# Altium integrated library CDE_Library.IntLib: 6171 symbols (part 7 of 25)
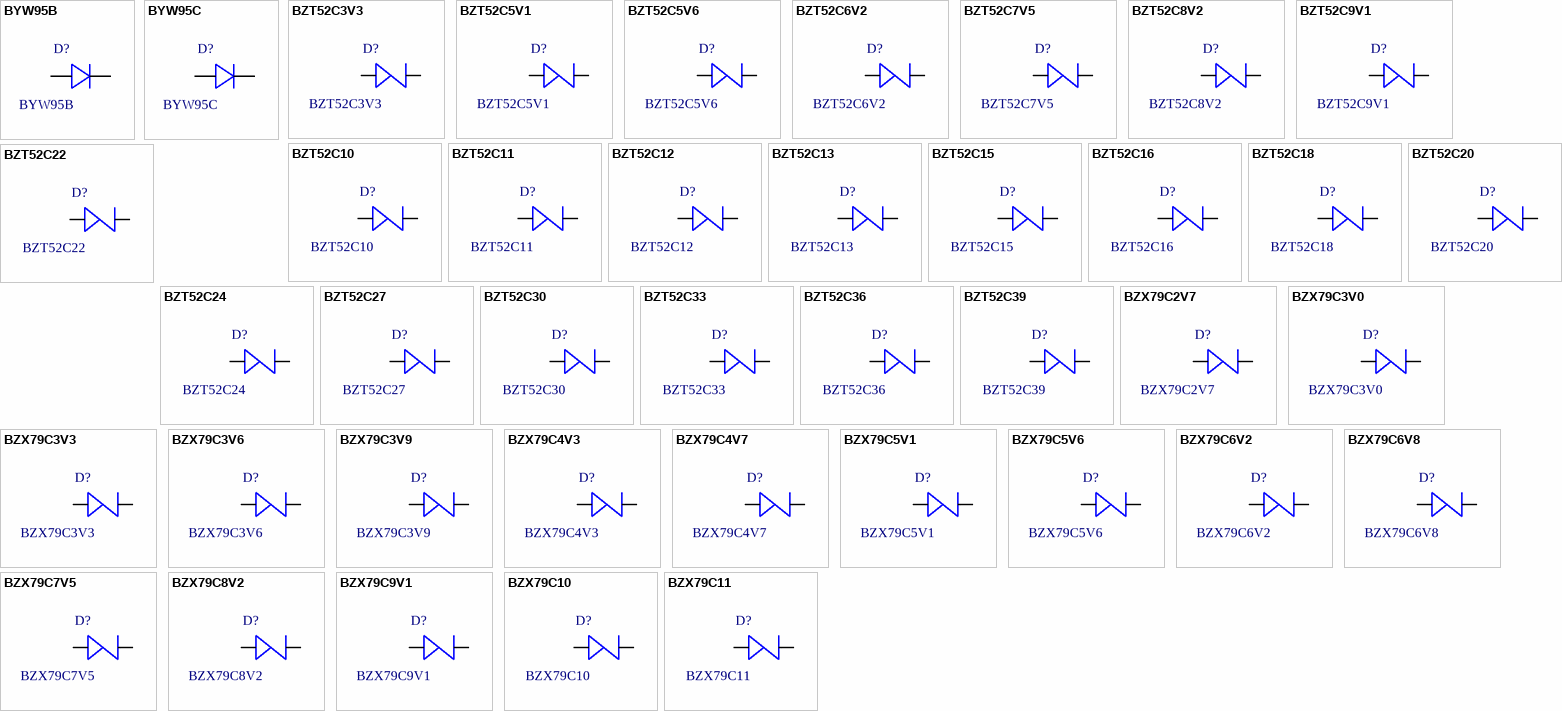
[diagram p263: symbols BYW95B to BZX79C11]

## BZT52C22
designator D?
zenerdiode smd 400mW; Part Number: BZT52C22; Component Kind: Standard; Component Type: Standard; Designator: BZT52C22; Footprint: smd SOD-123; Library Reference: BZT52C22; Pin Count: 2
footprint smd SOD-123
pins: 1, 2

## BZT52C24
designator D?
zenerdiode smd 400mW; Part Number: BZT52C24; Component Kind: Standard; Component Type: Standard; Designator: BZT52C24; Footprint: smd SOD-123; Library Reference: BZT52C24; Pin Count: 2
footprint smd SOD-123
pins: 1, 2

## BZT52C27
designator D?
zenerdiode smd 400mW; Part Number: BZT52C27; Component Kind: Standard; Component Type: Standard; Designator: BZT52C27; Footprint: smd SOD-123; Library Reference: BZT52C27; Pin Count: 2
footprint smd SOD-123
pins: 1, 2

## BZT52C30
designator D?
zenerdiode smd 400mW; Part Number: BZT52C30; Component Kind: Standard; Component Type: Standard; Designator: BZT52C30; Footprint: smd SOD-123; Library Reference: BZT52C30; Pin Count: 2
footprint smd SOD-123
pins: 1, 2

## BZT52C33
designator D?
zenerdiode smd 400mW; Part Number: BZT52C33; Component Kind: Standard; Component Type: Standard; Designator: BZT52C33; Footprint: smd SOD-123; Library Reference: BZT52C33; Pin Count: 2
footprint smd SOD-123
pins: 1, 2

## BZT52C36
designator D?
zenerdiode smd 400mW; Part Number: BZT52C36; Component Kind: Standard; Component Type: Standard; Designator: BZT52C36; Footprint: smd SOD-123; Library Reference: BZT52C36; Pin Count: 2
footprint smd SOD-123
pins: 1, 2

## BZT52C39
designator D?
zenerdiode smd 400mW; Part Number: BZT52C39; Component Kind: Standard; Component Type: Standard; Designator: BZT52C39; Footprint: smd SOD-123; Library Reference: BZT52C39; Pin Count: 2
footprint smd SOD-123
pins: 1, 2

## BZX79C2V7
designator D?
zenerdiode 400mW/2V7; Part Number: BZX79C2V7; Component Kind: Standard; Component Type: Standard; Designator: BZX79C2V7; Footprint: DO-35; Library Reference: BZX79C2V7; Pin Count: 2
footprint DO-35
pins: 1, 2

## BZX79C3V0
designator D?
zenerdiode 400mW/3V0; Part Number: BZX79C3V0; Component Kind: Standard; Component Type: Standard; Designator: BZX79C3V0; Footprint: DO-35; Library Reference: BZX79C3V0; Pin Count: 2
footprint DO-35
pins: 1, 2

## BZX79C3V3
designator D?
zenerdiode 400mW/3V3; Part Number: BZX79C3V3; Component Kind: Standard; Component Type: Standard; Designator: BZX79C3V3; Footprint: DO-35; Library Reference: BZX79C3V3; Pin Count: 2
footprint DO-35
pins: 1, 2

## BZX79C3V6
designator D?
zenerdiode 400mW/3V6; Part Number: BZX79C3V6; Component Kind: Standard; Component Type: Standard; Designator: BZX79C3V6; Footprint: DO-35; Library Reference: BZX79C3V6; Pin Count: 2
footprint DO-35
pins: 1, 2

## BZX79C3V9
designator D?
zenerdiode 400mW/3V9; Part Number: BZX79C3V9; Component Kind: Standard; Component Type: Standard; Designator: BZX79C3V9; Footprint: DO-35; Library Reference: BZX79C3V9; Pin Count: 2
footprint DO-35
pins: 1, 2

## BZX79C4V3
designator D?
zenerdiode 400mW/4V3; Part Number: BZX79C4V3; Component Kind: Standard; Component Type: Standard; Designator: BZX79C4V3; Footprint: DO-35; Library Reference: BZX79C4V3; Pin Count: 2
footprint DO-35
pins: 1, 2

## BZX79C4V7
designator D?
zenerdiode 400mW/4V7; Part Number: BZX79C4V7; Component Kind: Standard; Component Type: Standard; Designator: BZX79C4V7; Footprint: DO-35; Library Reference: BZX79C4V7; Pin Count: 2
footprint DO-35
pins: 1, 2

## BZX79C5V1
designator D?
zenerdiode 400mW/5V1; Part Number: BZX79C5V1; Component Kind: Standard; Component Type: Standard; Designator: BZX79C5V1; Footprint: DO-35; Library Reference: BZX79C5V1; Pin Count: 2
footprint DO-35
pins: 1, 2

## BZX79C5V6
designator D?
zenerdiode 400mW/5V6; Part Number: BZX79C5V6; Component Kind: Standard; Component Type: Standard; Designator: BZX79C5V6; Footprint: DO-35; Library Reference: BZX79C5V6; Pin Count: 2
footprint DO-35
pins: 1, 2

## BZX79C6V2
designator D?
zenerdiode 400mW/6V2; Part Number: BZX79C6V2; Component Kind: Standard; Component Type: Standard; Designator: BZX79C6V2; Footprint: DO-35; Library Reference: BZX79C6V2; Pin Count: 2
footprint DO-35
pins: 1, 2

## BZX79C6V8
designator D?
zenerdiode 400mW/6V8; Part Number: BZX79C6V8; Component Kind: Standard; Component Type: Standard; Designator: BZX79C6V8; Footprint: DO-35; Library Reference: BZX79C6V8; Pin Count: 2
footprint DO-35
pins: 1, 2

## BZX79C7V5
designator D?
zenerdiode 400mW/7V5; Part Number: BZX79C7V5; Component Kind: Standard; Component Type: Standard; Designator: BZX79C7V5; Footprint: DO-35; Library Reference: BZX79C7V5; Pin Count: 2
footprint DO-35
pins: 1, 2

## BZX79C8V2
designator D?
zenerdiode 400mW/8V2; Part Number: BZX79C8V2; Component Kind: Standard; Component Type: Standard; Designator: BZX79C8V2; Footprint: DO-35; Library Reference: BZX79C8V2; Pin Count: 2
footprint DO-35
pins: 1, 2

## BZX79C9V1
designator D?
zenerdiode 400mW/9V1; Part Number: BZX79C9V1; Component Kind: Standard; Component Type: Standard; Designator: BZX79C9V1; Footprint: DO-35; Library Reference: BZX79C9V1; Pin Count: 2
footprint DO-35
pins: 1, 2

## BZX79C10
designator D?
zenerdiode 400mW/10V; Part Number: BZX79C10; Component Kind: Standard; Component Type: Standard; Designator: BZX79C10; Footprint: DO-35; Library Reference: BZX79C10; Pin Count: 2
footprint DO-35
pins: 1, 2

## BZX79C11
designator D?
zenerdiode 400mW/11V; Part Number: BZX79C11; Component Kind: Standard; Component Type: Standard; Designator: BZX79C11; Footprint: DO-35; Library Reference: BZX79C11; Pin Count: 2
footprint DO-35
pins: 1, 2

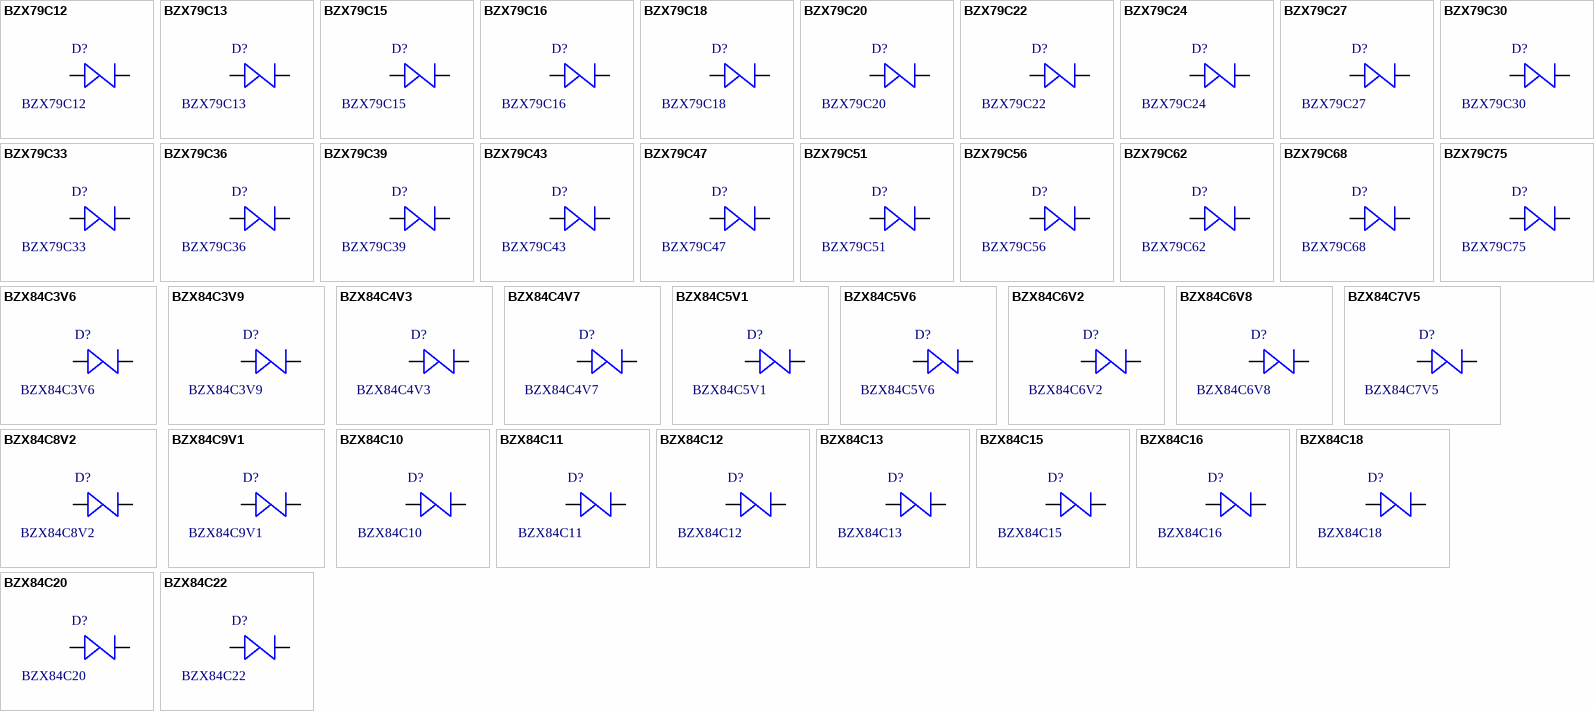
[diagram p101: symbols BZX79C12 to BZX84C22]

## BZX79C12
designator D?
zenerdiode 400mW/12V; Part Number: BZX79C12; Component Kind: Standard; Component Type: Standard; Designator: BZX79C12; Footprint: DO-35; Library Reference: BZX79C12; Pin Count: 2
footprint DO-35
pins: 1, 2

## BZX79C13
designator D?
zenerdiode 400mW/13V; Part Number: BZX79C13; Component Kind: Standard; Component Type: Standard; Designator: BZX79C13; Footprint: DO-35; Library Reference: BZX79C13; Pin Count: 2
footprint DO-35
pins: 1, 2

## BZX79C15
designator D?
zenerdiode 400mW/15V; Part Number: BZX79C15; Component Kind: Standard; Component Type: Standard; Designator: BZX79C15; Footprint: DO-35; Library Reference: BZX79C15; Pin Count: 2
footprint DO-35
pins: 1, 2

## BZX79C16
designator D?
zenerdiode 400mW/16V; Part Number: BZX79C16; Component Kind: Standard; Component Type: Standard; Designator: BZX79C16; Footprint: DO-35; Library Reference: BZX79C16; Pin Count: 2
footprint DO-35
pins: 1, 2

## BZX79C18
designator D?
zenerdiode 400mW/18V; Part Number: BZX79C18; Component Kind: Standard; Component Type: Standard; Designator: BZX79C18; Footprint: DO-35; Library Reference: BZX79C18; Pin Count: 2
footprint DO-35
pins: 1, 2

## BZX79C20
designator D?
zenerdiode 400mW/20V; Part Number: BZX79C20; Component Kind: Standard; Component Type: Standard; Designator: BZX79C20; Footprint: DO-35; Library Reference: BZX79C20; Pin Count: 2
footprint DO-35
pins: 1, 2

## BZX79C22
designator D?
zenerdiode 400mW/22V; Part Number: BZX79C22; Component Kind: Standard; Component Type: Standard; Designator: BZX79C22; Footprint: DO-35; Library Reference: BZX79C22; Pin Count: 2
footprint DO-35
pins: 1, 2

## BZX79C24
designator D?
zenerdiode 400mW/24V; Part Number: BZX79C24; Component Kind: Standard; Component Type: Standard; Designator: BZX79C24; Footprint: DO-35; Library Reference: BZX79C24; Pin Count: 2
footprint DO-35
pins: 1, 2

## BZX79C27
designator D?
zenerdiode 400mW/27V; Part Number: BZX79C27; Component Kind: Standard; Component Type: Standard; Designator: BZX79C27; Footprint: DO-35; Library Reference: BZX79C27; Pin Count: 2
footprint DO-35
pins: 1, 2

## BZX79C30
designator D?
zenerdiode 400mW/30V; Part Number: BZX79C30; Component Kind: Standard; Component Type: Standard; Designator: BZX79C30; Footprint: DO-35; Library Reference: BZX79C30; Pin Count: 2
footprint DO-35
pins: 1, 2

## BZX79C33
designator D?
zenerdiode 400mW/33V; Part Number: BZX79C33; Component Kind: Standard; Component Type: Standard; Designator: BZX79C33; Footprint: DO-35; Library Reference: BZX79C33; Pin Count: 2
footprint DO-35
pins: 1, 2

## BZX79C36
designator D?
zenerdiode 400mW/36V; Part Number: BZX79C36; Component Kind: Standard; Component Type: Standard; Designator: BZX79C36; Footprint: DO-35; Library Reference: BZX79C36; Pin Count: 2
footprint DO-35
pins: 1, 2

## BZX79C39
designator D?
zenerdiode 400mW/39V; Part Number: BZX79C39; Component Kind: Standard; Component Type: Standard; Designator: BZX79C39; Footprint: DO-35; Library Reference: BZX79C39; Pin Count: 2
footprint DO-35
pins: 1, 2

## BZX79C43
designator D?
zenerdiode 400mW/43V; Part Number: BZX79C43; Component Kind: Standard; Component Type: Standard; Designator: BZX79C43; Footprint: DO-35; Library Reference: BZX79C43; Pin Count: 2
footprint DO-35
pins: 1, 2

## BZX79C47
designator D?
zenerdiode 400mW/47V; Part Number: BZX79C47; Component Kind: Standard; Component Type: Standard; Designator: BZX79C47; Footprint: DO-35; Library Reference: BZX79C47; Pin Count: 2
footprint DO-35
pins: 1, 2

## BZX79C51
designator D?
zenerdiode 400mW/51V; Part Number: BZX79C51; Component Kind: Standard; Component Type: Standard; Designator: BZX79C51; Footprint: DO-35; Library Reference: BZX79C51; Pin Count: 2
footprint DO-35
pins: 1, 2

## BZX79C56
designator D?
zenerdiode 400mW/56V; Part Number: BZX79C56; Component Kind: Standard; Component Type: Standard; Designator: BZX79C56; Footprint: DO-35; Library Reference: BZX79C56; Pin Count: 2
footprint DO-35
pins: 1, 2

## BZX79C62
designator D?
zenerdiode 400mW/62V; Part Number: BZX79C62; Component Kind: Standard; Component Type: Standard; Designator: BZX79C62; Footprint: DO-35; Library Reference: BZX79C62; Pin Count: 2
footprint DO-35
pins: 1, 2

## BZX79C68
designator D?
zenerdiode 400mW/68V; Part Number: BZX79C68; Component Kind: Standard; Component Type: Standard; Designator: BZX79C68; Footprint: DO-35; Library Reference: BZX79C68; Pin Count: 2
footprint DO-35
pins: 1, 2

## BZX79C75
designator D?
zenerdiode 400mW/75V; Part Number: BZX79C75; Component Kind: Standard; Component Type: Standard; Designator: BZX79C75; Footprint: DO-35; Library Reference: BZX79C75; Pin Count: 2
footprint DO-35
pins: 1, 2

## BZX84C3V6
designator D?
zenerdiode 350mW/3V6, SOT-23; Part Number: BZX84C3V6; Component Kind: Standard; Component Type: Standard; Designator: BZX84C3V6; Footprint: smd SOT-23; Library Reference: BZX84C3V6; Pin Count: 2
footprint smd SOT-23
pins: 1, 3

## BZX84C3V9
designator D?
zenerdiode 350mW/3V9, SOT-23; Part Number: BZX84C3V9; Component Kind: Standard; Component Type: Standard; Designator: BZX84C3V9; Footprint: smd SOT-23; Library Reference: BZX84C3V9; Pin Count: 2
footprint smd SOT-23
pins: 1, 3

## BZX84C4V3
designator D?
zenerdiode 350mW/4V3, SOT-23; Part Number: BZX84C4V3; Component Kind: Standard; Component Type: Standard; Designator: BZX84C4V3; Footprint: smd SOT-23; Library Reference: BZX84C4V3; Pin Count: 2
footprint smd SOT-23
pins: 1, 3

## BZX84C4V7
designator D?
zenerdiode 350mW/4V7, SOT-23; Part Number: BZX84C4V7; Component Kind: Standard; Component Type: Standard; Designator: BZX84C4V7; Footprint: smd SOT-23; Library Reference: BZX84C4V7; Pin Count: 2
footprint smd SOT-23
pins: 1, 3

## BZX84C5V1
designator D?
zenerdiode 350mW/5V1, SOT-23; Part Number: BZX84C5V1; Component Kind: Standard; Component Type: Standard; Designator: BZX84C5V1; Footprint: smd SOT-23; Library Reference: BZX84C5V1; Pin Count: 2
footprint smd SOT-23
pins: 1, 3

## BZX84C5V6
designator D?
zenerdiode 350mW/5V6, SOT-23; Part Number: BZX84C5V6; Component Kind: Standard; Component Type: Standard; Designator: BZX84C5V6; Footprint: smd SOT-23; Library Reference: BZX84C5V6; Pin Count: 2
footprint smd SOT-23
pins: 1, 3

## BZX84C6V2
designator D?
zenerdiode 350mW/6V2, SOT-23; Part Number: BZX84C6V2; Component Kind: Standard; Component Type: Standard; Designator: BZX84C6V2; Footprint: smd SOT-23; Library Reference: BZX84C6V2; Pin Count: 2
footprint smd SOT-23
pins: 1, 3

## BZX84C6V8
designator D?
zenerdiode 350mW/6V8, SOT-23; Part Number: BZX84C6V8; Component Kind: Standard; Component Type: Standard; Designator: BZX84C6V8; Footprint: smd SOT-23; Library Reference: BZX84C6V8; Pin Count: 2
footprint smd SOT-23
pins: 1, 3

## BZX84C7V5
designator D?
zenerdiode 350mW/7V5, SOT-23; Part Number: BZX84C7V5; Component Kind: Standard; Component Type: Standard; Designator: BZX84C7V5; Footprint: smd SOT-23; Library Reference: BZX84C7V5; Pin Count: 2
footprint smd SOT-23
pins: 1, 3

## BZX84C8V2
designator D?
zenerdiode 350mW/8V2, SOT-23; Part Number: BZX84C8V2; Component Kind: Standard; Component Type: Standard; Designator: BZX84C8V2; Footprint: smd SOT-23; Library Reference: BZX84C8V2; Pin Count: 2
footprint smd SOT-23
pins: 1, 3

## BZX84C9V1
designator D?
zenerdiode 350mW/9V1, SOT-23; Part Number: BZX84C9V1; Component Kind: Standard; Component Type: Standard; Designator: BZX84C9V1; Footprint: smd SOT-23; Library Reference: BZX84C9V1; Pin Count: 2
footprint smd SOT-23
pins: 1, 3

## BZX84C10
designator D?
zenerdiode 350mW/10V, SOT-23; Part Number: BZX84C10; Component Kind: Standard; Component Type: Standard; Designator: BZX84C10; Footprint: smd SOT-23; Library Reference: BZX84C10; Pin Count: 2
footprint smd SOT-23
pins: 1, 3

## BZX84C11
designator D?
zenerdiode 350mW/11V, SOT-23; Part Number: BZX84C11; Component Kind: Standard; Component Type: Standard; Designator: BZX84C11; Footprint: smd SOT-23; Library Reference: BZX84C11; Pin Count: 2
footprint smd SOT-23
pins: 1, 3

## BZX84C12
designator D?
zenerdiode 350mW/12V, SOT-23; Part Number: BZX84C12; Component Kind: Standard; Component Type: Standard; Designator: BZX84C12; Footprint: smd SOT-23; Library Reference: BZX84C12; Pin Count: 2
footprint smd SOT-23
pins: 1, 3

## BZX84C13
designator D?
zenerdiode 350mW/13V, SOT-23; Part Number: BZX84C13; Component Kind: Standard; Component Type: Standard; Designator: BZX84C13; Footprint: smd SOT-23; Library Reference: BZX84C13; Pin Count: 2
footprint smd SOT-23
pins: 1, 3

## BZX84C15
designator D?
zenerdiode 350mW/15V, SOT-23; Part Number: BZX84C15; Component Kind: Standard; Component Type: Standard; Designator: BZX84C15; Footprint: smd SOT-23; Library Reference: BZX84C15; Pin Count: 2
footprint smd SOT-23
pins: 1, 3

## BZX84C16
designator D?
zenerdiode 350mW/16V, SOT-23; Part Number: BZX84C16; Component Kind: Standard; Component Type: Standard; Designator: BZX84C16; Footprint: smd SOT-23; Library Reference: BZX84C16; Pin Count: 2
footprint smd SOT-23
pins: 1, 3

## BZX84C18
designator D?
zenerdiode 350mW/18V, SOT-23; Part Number: BZX84C18; Component Kind: Standard; Component Type: Standard; Designator: BZX84C18; Footprint: smd SOT-23; Library Reference: BZX84C18; Pin Count: 2
footprint smd SOT-23
pins: 1, 3

## BZX84C20
designator D?
zenerdiode 350mW/20V, SOT-23; Part Number: BZX84C20; Component Kind: Standard; Component Type: Standard; Designator: BZX84C20; Footprint: smd SOT-23; Library Reference: BZX84C20; Pin Count: 2
footprint smd SOT-23
pins: 1, 3

## BZX84C22
designator D?
zenerdiode 350mW/22V, SOT-23; Part Number: BZX84C22; Component Kind: Standard; Component Type: Standard; Designator: BZX84C22; Footprint: smd SOT-23; Library Reference: BZX84C22; Pin Count: 2
footprint smd SOT-23
pins: 1, 3

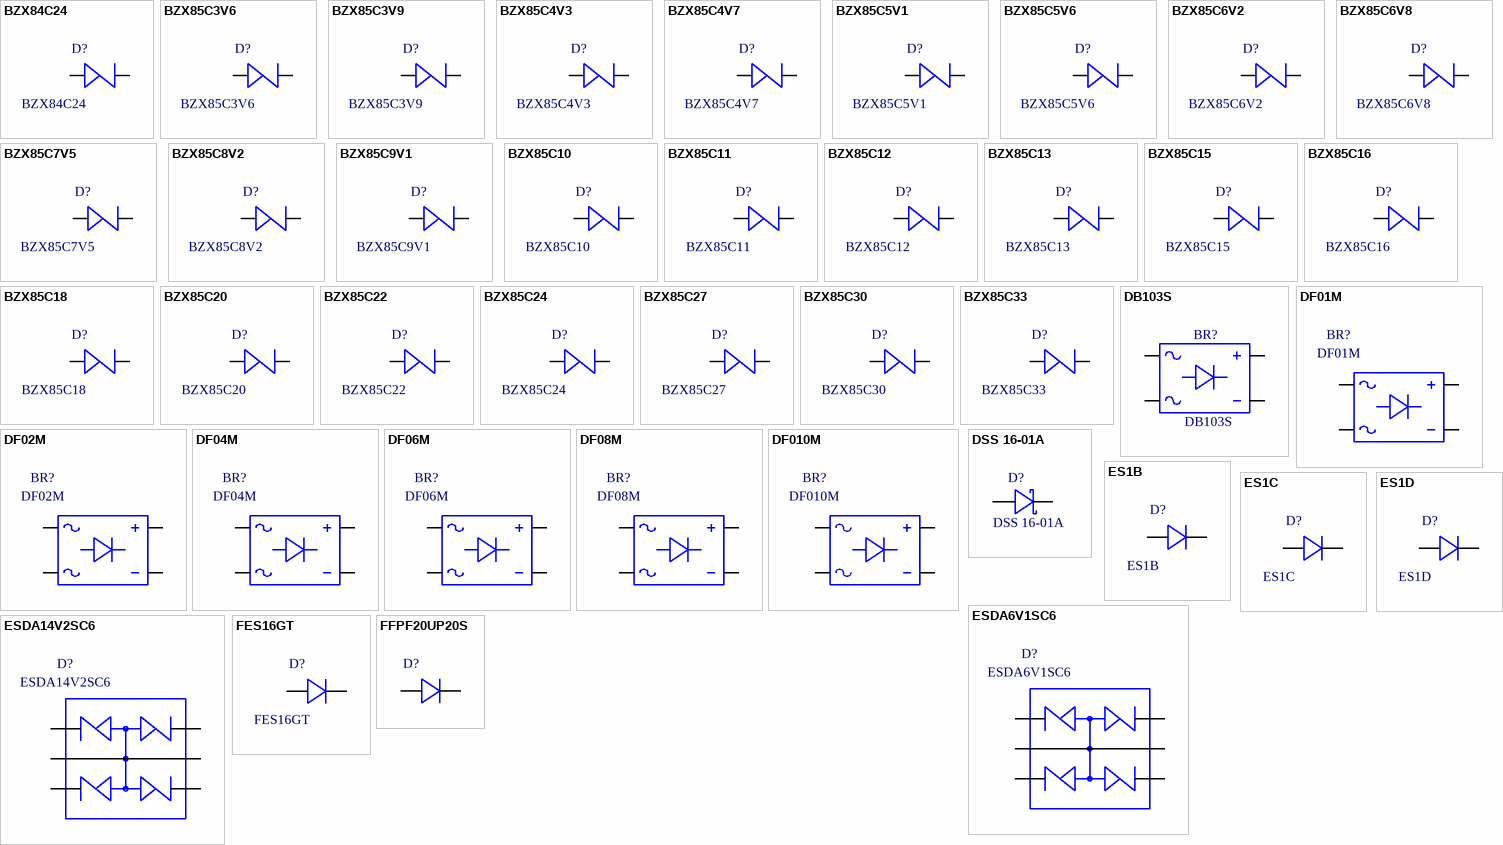
[diagram p102: symbols BZX84C24 to FFPF20UP20S]

## BZX84C24
designator D?
zenerdiode 350mW/24V, SOT-23; Part Number: BZX84C24; Component Kind: Standard; Component Type: Standard; Designator: BZX84C24; Footprint: smd SOT-23; Library Reference: BZX84C24; Pin Count: 2
footprint smd SOT-23
pins: 1, 3

## BZX85C3V6
designator D?
zenerdiode 1.3W/3V6; Part Number: BZX85C3V6; Component Kind: Standard; Component Type: Standard; Designator: BZX85C3V6; Footprint: DO-41; Library Reference: BZX85C3V6; Pin Count: 2
footprint DO-41
pins: 1, 2

## BZX85C3V9
designator D?
zenerdiode 1.3W/3V9; Part Number: BZX85C3V9; Component Kind: Standard; Component Type: Standard; Designator: BZX85C3V9; Footprint: DO-41; Library Reference: BZX85C3V9; Pin Count: 2
footprint DO-41
pins: 1, 2

## BZX85C4V3
designator D?
zenerdiode 1.3W/4V3; Part Number: BZX85C4V3; Component Kind: Standard; Component Type: Standard; Designator: BZX85C4V3; Footprint: DO-41; Library Reference: BZX85C4V3; Pin Count: 2
footprint DO-41
pins: 1, 2

## BZX85C4V7
designator D?
zenerdiode 1.3W/4V7; Part Number: BZX85C4V7; Component Kind: Standard; Component Type: Standard; Designator: BZX85C4V7; Footprint: DO-41; Library Reference: BZX85C4V7; Pin Count: 2
footprint DO-41
pins: 1, 2

## BZX85C5V1
designator D?
zenerdiode 1.3W/5V1; Part Number: BZX85C5V1; Component Kind: Standard; Component Type: Standard; Designator: BZX85C5V1; Footprint: DO-41; Library Reference: BZX85C5V1; Pin Count: 2
footprint DO-41
pins: 1, 2

## BZX85C5V6
designator D?
zenerdiode 1.3W/5V6; Part Number: BZX85C5V6; Component Kind: Standard; Component Type: Standard; Designator: BZX85C5V6; Footprint: DO-41; Library Reference: BZX85C5V6; Pin Count: 2
footprint DO-41
pins: 1, 2

## BZX85C6V2
designator D?
zenerdiode 1.3W/6V2; Part Number: BZX85C6V2; Component Kind: Standard; Component Type: Standard; Designator: BZX85C6V2; Footprint: DO-41; Library Reference: BZX85C6V2; Pin Count: 2
footprint DO-41
pins: 1, 2

## BZX85C6V8
designator D?
zenerdiode 1.3W/6V8; Part Number: BZX85C6V8; Component Kind: Standard; Component Type: Standard; Designator: BZX85C6V8; Footprint: DO-41; Library Reference: BZX85C6V8; Pin Count: 2
footprint DO-41
pins: 1, 2

## BZX85C7V5
designator D?
zenerdiode 1.3W/7V5; Part Number: BZX85C7V5; Component Kind: Standard; Component Type: Standard; Designator: BZX85C7V5; Footprint: DO-41; Library Reference: BZX85C7V5; Pin Count: 2
footprint DO-41
pins: 1, 2

## BZX85C8V2
designator D?
zenerdiode 1.3W/8V2; Part Number: BZX85C8V2; Component Kind: Standard; Component Type: Standard; Designator: BZX85C8V2; Footprint: DO-41; Library Reference: BZX85C8V2; Pin Count: 2
footprint DO-41
pins: 1, 2

## BZX85C9V1
designator D?
zenerdiode 1.3W/9V1; Part Number: BZX85C9V1; Component Kind: Standard; Component Type: Standard; Designator: BZX85C9V1; Footprint: DO-41; Library Reference: BZX85C9V1; Pin Count: 2
footprint DO-41
pins: 1, 2

## BZX85C10
designator D?
zenerdiode 1.3W/10V; Part Number: BZX85C10; Component Kind: Standard; Component Type: Standard; Designator: BZX85C10; Footprint: DO-41; Library Reference: BZX85C10; Pin Count: 2
footprint DO-41
pins: 1, 2

## BZX85C11
designator D?
zenerdiode 1.3W/11V; Part Number: BZX85C11; Component Kind: Standard; Component Type: Standard; Designator: BZX85C11; Footprint: DO-41; Library Reference: BZX85C11; Pin Count: 2
footprint DO-41
pins: 1, 2

## BZX85C12
designator D?
zenerdiode 1.3W/12V; Part Number: BZX85C12; Component Kind: Standard; Component Type: Standard; Designator: BZX85C12; Footprint: DO-41; Library Reference: BZX85C12; Pin Count: 2
footprint DO-41
pins: 1, 2

## BZX85C13
designator D?
zenerdiode 1.3W/13V; Part Number: BZX85C13; Component Kind: Standard; Component Type: Standard; Designator: BZX85C13; Footprint: DO-41; Library Reference: BZX85C13; Pin Count: 2
footprint DO-41
pins: 1, 2

## BZX85C15
designator D?
zenerdiode 1.3W/15V; Part Number: BZX85C15; Component Kind: Standard; Component Type: Standard; Designator: BZX85C15; Footprint: DO-41; Library Reference: BZX85C15; Pin Count: 2
footprint DO-41
pins: 1, 2

## BZX85C16
designator D?
zenerdiode 1.3W/16V; Part Number: BZX85C16; Component Kind: Standard; Component Type: Standard; Designator: BZX85C16; Footprint: DO-41; Library Reference: BZX85C16; Pin Count: 2
footprint DO-41
pins: 1, 2

## BZX85C18
designator D?
zenerdiode 1.3W/18V; Part Number: BZX85C18; Component Kind: Standard; Component Type: Standard; Designator: BZX85C18; Footprint: DO-41; Library Reference: BZX85C18; Pin Count: 2
footprint DO-41
pins: 1, 2

## BZX85C20
designator D?
zenerdiode 1.3W/20V; Part Number: BZX85C20; Component Kind: Standard; Component Type: Standard; Designator: BZX85C20; Footprint: DO-41; Library Reference: BZX85C20; Pin Count: 2
footprint DO-41
pins: 1, 2

## BZX85C22
designator D?
zenerdiode 1.3W/22V; Part Number: BZX85C22; Component Kind: Standard; Component Type: Standard; Designator: BZX85C22; Footprint: DO-41; Library Reference: BZX85C22; Pin Count: 2
footprint DO-41
pins: 1, 2

## BZX85C24
designator D?
zenerdiode 1.3W/24V; Part Number: BZX85C24; Component Kind: Standard; Component Type: Standard; Designator: BZX85C24; Footprint: DO-41; Library Reference: BZX85C24; Pin Count: 2
footprint DO-41
pins: 1, 2

## BZX85C27
designator D?
zenerdiode 1.3W/27V; Part Number: BZX85C27; Component Kind: Standard; Component Type: Standard; Designator: BZX85C27; Footprint: DO-41; Library Reference: BZX85C27; Pin Count: 2
footprint DO-41
pins: 1, 2

## BZX85C30
designator D?
zenerdiode 1.3W/30V; Part Number: BZX85C30; Component Kind: Standard; Component Type: Standard; Designator: BZX85C30; Footprint: DO-41; Library Reference: BZX85C30; Pin Count: 2
footprint DO-41
pins: 1, 2

## BZX85C33
designator D?
zenerdiode 1.3W/33V; Part Number: BZX85C33; Component Kind: Standard; Component Type: Standard; Designator: BZX85C33; Footprint: DO-41; Library Reference: BZX85C33; Pin Count: 2
footprint DO-41
pins: 1, 2

## DB103S
designator BR?
Diodebrug 200V/1A
footprint smd bridge dbs (Multicomp DBS series)
pins: 1, 2, 3, 4

## DF01M
designator BR?
graetzbrug  100V/1A; Part Number: DF01M; Component Kind: Standard; Component Type: Standard; Designator: DF01M; Footprint: diodebrug (.33/.25/90/32); Library Reference: DF01M; Pin Count: 4
footprint diodebrug (.33/.25/90/32)
pins: 1, 2, 3, 4

## DF02M
designator BR?
graetzbrug  200V/1A; Part Number: DF02M; Component Kind: Standard; Component Type: Standard; Designator: DF02M; Footprint: diodebrug (.33/.25/90/32); Library Reference: DF02M; Pin Count: 4
footprint diodebrug (.33/.25/90/32)
pins: 1, 2, 3, 4

## DF04M
designator BR?
graetzbrug  400V/1A; Part Number: DF04M; Component Kind: Standard; Component Type: Standard; Designator: DF04M; Footprint: diodebrug (.33/.25/90/32); Library Reference: DF04M; Pin Count: 4
footprint diodebrug (.33/.25/90/32)
pins: 1, 2, 3, 4

## DF06M
designator BR?
graetzbrug  600V/1A; Part Number: DF06M; Component Kind: Standard; Component Type: Standard; Designator: DF06M; Footprint: diodebrug (.33/.25/90/32); Library Reference: DF06M; Pin Count: 4
footprint diodebrug (.33/.25/90/32)
pins: 1, 2, 3, 4

## DF08M
designator BR?
graetzbrug  800V/1A; Part Number: DF08M; Component Kind: Standard; Component Type: Standard; Designator: DF08M; Footprint: diodebrug (.33/.25/90/32); Library Reference: DF08M; Pin Count: 4
footprint diodebrug (.33/.25/90/32)
pins: 1, 2, 3, 4

## DF010M
designator BR?
graetzbrug  1000V/1A; Part Number: DF010M; Component Kind: Standard; Component Type: Standard; Designator: DF010M; Footprint: diodebrug (.33/.25/90/32); Library Reference: DF010M; Pin Count: 4
footprint diodebrug (.33/.25/90/32)
pins: 1, 2, 3, 4

## DSS 16-01A
designator D?
Power Schottky Rectifier
footprint TO-220 2pin
pins: 1, 2

## ES1B
designator D?
ultra fast recovery power rectifier; Part Number: ES1B; Component Kind: Standard; Component Type: Standard; Designator: ES1B; Footprint: smd DO-214; Library Reference: ES1B; Pin Count: 2
footprint smd DO-214
pins: 1, 2

## ES1C
designator D?
ultra fast recovery power rectifier; Part Number: ES1C; Component Kind: Standard; Component Type: Standard; Designator: ES1C; Footprint: smd DO-214; Library Reference: ES1C; Pin Count: 2
footprint smd DO-214
pins: 1, 2

## ES1D
designator D?
ultra fast recovery power rectifier; Part Number: ES1D; Component Kind: Standard; Component Type: Standard; Designator: ES1D; Footprint: smd DO-214; Library Reference: ES1D; Pin Count: 2
footprint smd DO-214
pins: 1, 2

## ESDA6V1SC6
designator D?
quadruple transil array; Part Number: ESDA6V1SC6; Component Kind: Standard; Component Type: Standard; Designator: ESDA6V1SC6; Library Reference: ESDA6V1SC6; Pin Count: 6
pins: 1, 2, 3, 4, 5, 6

## ESDA14V2SC6
designator D?
quadruple transil array; Part Number: ESDA14V2SC6; Component Kind: Standard; Component Type: Standard; Designator: ESDA14V2SC6; Library Reference: ESDA14V2SC6; Pin Count: 6
pins: 1, 2, 3, 4, 5, 6

## FES16GT
designator D?
fast rectifier diode; Part Number: FES16GT; Component Kind: Standard; Component Type: Standard; Designator: FES16GT; Footprint: TO-220 2pin; Library Reference: FES16GT; Pin Count: 2
footprint TO-220 2pin
pins: 1, 2

## FFPF20UP20S
designator D?  (value not drawn)
Ultrafast Recovery Power Rectifier 20A; Part Number: 1N914; Component Kind: Standard; Component Type: Standard; Designator: 1N914; Footprint: DO-35; Library Reference: 1N914; Pin Count: 2
footprint TO-220 2pin
pins: 1, 2

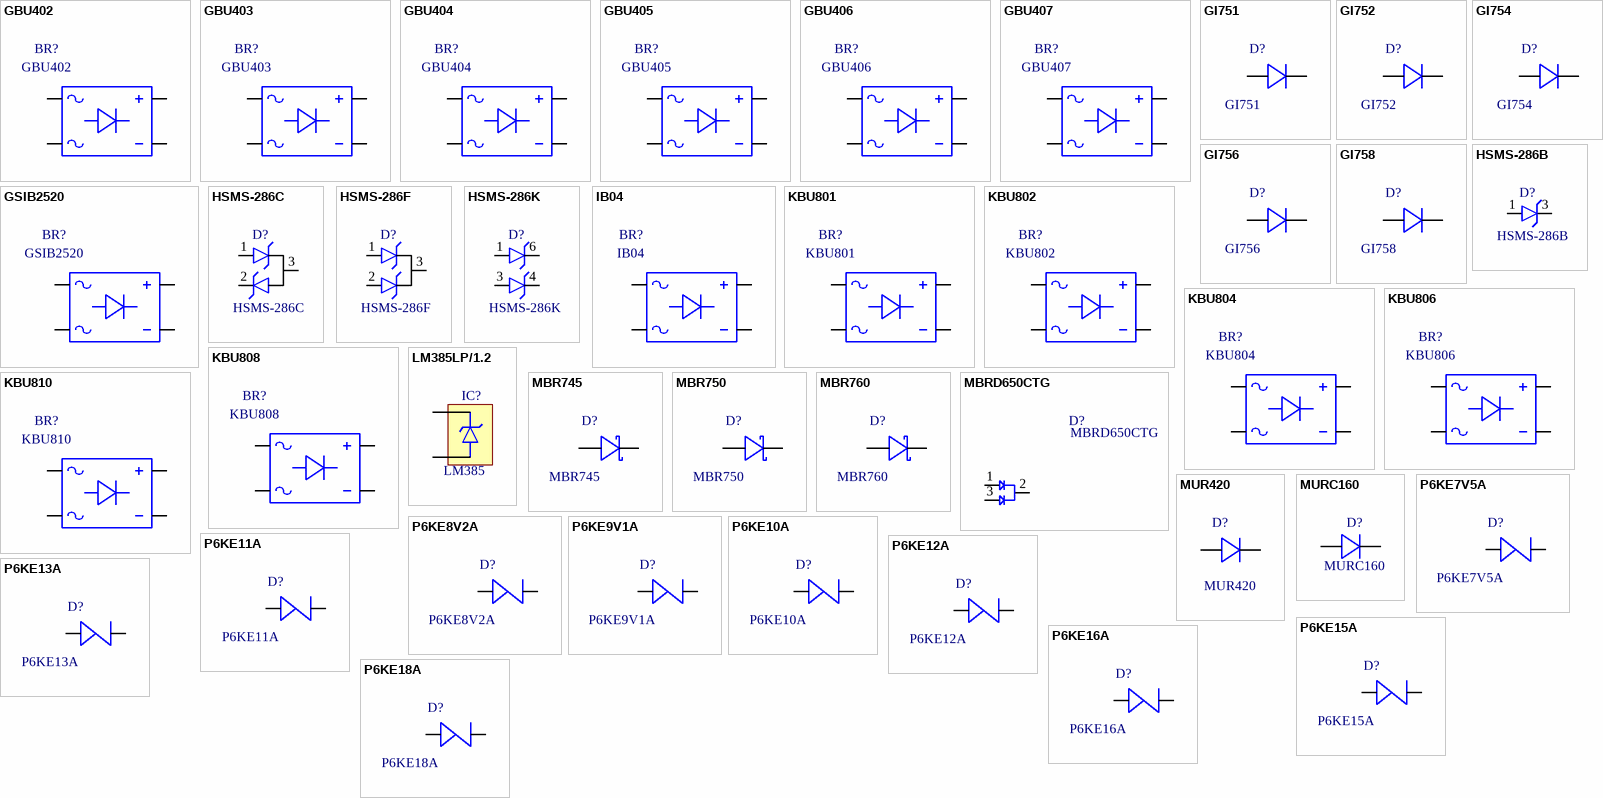
[diagram p103: symbols GBU402 to P6KE18A]

## GBU402
designator BR?
graetzbrug 100V/4A; Part Number: GBU402; Component Kind: Standard; Component Type: Standard; Designator: GBU402; Footprint: diodebrug TSC/GBU40x; Library Reference: GBU402; Pin Count: 4
footprint diodebrug TSC/GBU40x
pins: 1, 2, 3, 4

## GBU403
designator BR?
graetzbrug 200V/4A; Part Number: GBU403; Component Kind: Standard; Component Type: Standard; Designator: GBU403; Footprint: diodebrug TSC/GBU40x; Library Reference: GBU403; Pin Count: 4
footprint diodebrug TSC/GBU40x
pins: 1, 2, 3, 4

## GBU404
designator BR?
graetzbrug 400V/4A; Part Number: GBU404; Component Kind: Standard; Component Type: Standard; Designator: GBU404; Footprint: diodebrug TSC/GBU40x; Library Reference: GBU404; Pin Count: 4
footprint diodebrug TSC/GBU40x
pins: 1, 2, 3, 4

## GBU405
designator BR?
graetzbrug 600V/4A; Part Number: GBU405; Component Kind: Standard; Component Type: Standard; Designator: GBU405; Footprint: diodebrug TSC/GBU40x; Library Reference: GBU405; Pin Count: 4
footprint diodebrug TSC/GBU40x
pins: 1, 2, 3, 4

## GBU406
designator BR?
graetzbrug 800V/4A; Part Number: GBU406; Component Kind: Standard; Component Type: Standard; Designator: GBU406; Footprint: diodebrug TSC/GBU40x; Library Reference: GBU406; Pin Count: 4
footprint diodebrug TSC/GBU40x
pins: 1, 2, 3, 4

## GBU407
designator BR?
graetzbrug 1000V/4A; Part Number: GBU407; Component Kind: Standard; Component Type: Standard; Designator: GBU407; Footprint: diodebrug TSC/GBU40x; Library Reference: GBU407; Pin Count: 4
footprint diodebrug TSC/GBU40x
pins: 1, 2, 3, 4

## GI751
designator D?
gelijkrichterdiode 100V/6A; Part Number: GI751; Component Kind: Standard; Component Type: Standard; Designator: GI751; Footprint: P600; Library Reference: GI751; Pin Count: 2
footprint P600
pins: 1, 2

## GI752
designator D?
gelijkrichterdiode 200V/6A; Part Number: GI752; Component Kind: Standard; Component Type: Standard; Designator: GI752; Footprint: P600; Library Reference: GI752; Pin Count: 2
footprint P600
pins: 1, 2

## GI754
designator D?
gelijkrichterdiode 400V/6A; Part Number: GI754; Component Kind: Standard; Component Type: Standard; Designator: GI754; Footprint: P600; Library Reference: GI754; Pin Count: 2
footprint P600
pins: 1, 2

## GI756
designator D?
gelijkrichterdiode 600V/6A; Part Number: GI756; Component Kind: Standard; Component Type: Standard; Designator: GI756; Footprint: P600; Library Reference: GI756; Pin Count: 2
footprint P600
pins: 1, 2

## GI758
designator D?
gelijkrichterdiode 800V/6A; Part Number: GI758; Component Kind: Standard; Component Type: Standard; Designator: GI758; Footprint: P600; Library Reference: GI758; Pin Count: 2
footprint P600
pins: 1, 2

## GSIB2520
designator BR?
Single-Phase Single In-Line Bridge Rectifier
footprint GSIB2520
pins: 1, 2, 3, 4

## HSMS-286B
designator D?
Surface Mount Microwave Schottky Detector Diodes
footprint smd SOT-323
pins: 1, 3

## HSMS-286C
designator D?
Surface Mount Microwave Schottky Detector Diodes
footprint smd SOT-323
pins: 1, 2, 3

## HSMS-286F
designator D?
Surface Mount Microwave Schottky Detector Diodes
footprint smd SOT-323
pins: 1, 2, 3

## HSMS-286K
designator D?
Surface Mount Microwave Schottky Detector Diodes
footprint smd SOT-363
pins: 1, 3, 4, 6

## IB04
designator BR?
graetzbrug  100V/1A; Part Number: IB04; Component Kind: Standard; Component Type: Standard; Designator: IB04; Footprint: diodebrug (.33/.25/90/32); Library Reference: IB04; Pin Count: 4
footprint diodebrug (.33/.25/90/32)
pins: 1, 2, 3, 4

## KBU801
designator BR?
graetzbrug 100V/8A; Part Number: KBU801; Component Kind: Standard; Component Type: Standard; Designator: KBU801; Footprint: diodebrug (KBU800); Library Reference: KBU801; Pin Count: 4
footprint diodebrug (KBU800)
pins: 1, 2, 3, 4

## KBU802
designator BR?
graetzbrug 200V/8A; Part Number: KBU802; Component Kind: Standard; Component Type: Standard; Designator: KBU802; Footprint: diodebrug (KBU800); Library Reference: KBU802; Pin Count: 4
footprint diodebrug (KBU800)
pins: 1, 2, 3, 4

## KBU804
designator BR?
graetzbrug 400V/8A; Part Number: KBU804; Component Kind: Standard; Component Type: Standard; Designator: KBU804; Footprint: diodebrug (KBU800); Library Reference: KBU804; Pin Count: 4
footprint diodebrug (KBU800)
pins: 1, 2, 3, 4

## KBU806
designator BR?
graetzbrug 600V/8A; Part Number: KBU806; Component Kind: Standard; Component Type: Standard; Designator: KBU806; Footprint: diodebrug (KBU800); Library Reference: KBU806; Pin Count: 4
footprint diodebrug (KBU800)
pins: 1, 2, 3, 4

## KBU808
designator BR?
graetzbrug 800V/8A; Part Number: KBU808; Component Kind: Standard; Component Type: Standard; Designator: KBU808; Footprint: diodebrug (KBU800); Library Reference: KBU808; Pin Count: 4
footprint diodebrug (KBU800)
pins: 1, 2, 3, 4

## KBU810
designator BR?
graetzbrug 1000V/8A; Part Number: KBU810; Component Kind: Standard; Component Type: Standard; Designator: KBU810; Footprint: diodebrug (KBU800); Library Reference: KBU810; Pin Count: 4
footprint diodebrug (KBU800)
pins: 1, 2, 3, 4

## LM385LP/1.2
designator IC?, comment LM385
1.2V Micropower, Precision Shunt  Voltage Reference
footprint TO-92
pins: 1, 2

## MBR745
designator D?
Schottky rectifier; Part Number: MBR745; Component Kind: Standard; Component Type: Standard; Designator: MBR745; Footprint: TO-220 2pin; Library Reference: MBR745; Pin Count: 2
footprint TO-220 2pin
pins: 1, 2

## MBR750
designator D?
Schottky rectifier; Part Number: MBR750; Component Kind: Standard; Component Type: Standard; Designator: MBR750; Footprint: TO-220 2pin; Library Reference: MBR750; Pin Count: 2
footprint TO-220 2pin
pins: 1, 2

## MBR760
designator D?
Schottky rectifier; Part Number: MBR760; Component Kind: Standard; Component Type: Standard; Designator: MBR760; Footprint: TO-220 2pin; Library Reference: MBR760; Pin Count: 2
footprint TO-220 2pin
pins: 1, 2

## MBRD650CTG
designator D?
SWITCHMODE  Power Rectifier
footprint SMD DPAK
pins: 1, 2, 3

## MUR420
designator D?
SWITCHMODE power rectifier
footprint DO-201
pins: 1, 2

## MURC160
designator D?
MURC160, Naked Die
footprint murc160/die (Naked Die)
pins: 1, 2

## P6KE7V5A
designator D?
transient voltage suppressor; Part Number: P6KE7V5A; Component Kind: Standard; Component Type: Standard; Designator: P6KE7V5A; Footprint: DO-15; Library Reference: P6KE7V5A; Pin Count: 2
footprint DO-15
pins: 1, 2

## P6KE8V2A
designator D?
transient voltage suppressor; Part Number: P6KE8V2A; Component Kind: Standard; Component Type: Standard; Designator: P6KE8V2A; Footprint: DO-15; Library Reference: P6KE8V2A; Pin Count: 2
footprint DO-15
pins: 1, 2

## P6KE9V1A
designator D?
transient voltage suppressor; Part Number: P6KE9V1A; Component Kind: Standard; Component Type: Standard; Designator: P6KE9V1A; Footprint: DO-15; Library Reference: P6KE9V1A; Pin Count: 2
footprint DO-15
pins: 1, 2

## P6KE10A
designator D?
transient voltage suppressor; Part Number: P6KE10A; Component Kind: Standard; Component Type: Standard; Designator: P6KE10A; Footprint: DO-15; Library Reference: P6KE10A; Pin Count: 2
footprint DO-15
pins: 1, 2

## P6KE11A
designator D?
transient voltage suppressor; Part Number: P6KE11A; Component Kind: Standard; Component Type: Standard; Designator: P6KE11A; Footprint: DO-15; Library Reference: P6KE11A; Pin Count: 2
footprint DO-15
pins: 1, 2

## P6KE12A
designator D?
transient voltage suppressor; Part Number: P6KE12A; Component Kind: Standard; Component Type: Standard; Designator: P6KE12A; Footprint: DO-15; Library Reference: P6KE12A; Pin Count: 2
footprint DO-15
pins: 1, 2

## P6KE13A
designator D?
transient voltage suppressor; Part Number: P6KE13A; Component Kind: Standard; Component Type: Standard; Designator: P6KE13A; Footprint: DO-15; Library Reference: P6KE13A; Pin Count: 2
footprint DO-15
pins: 1, 2

## P6KE15A
designator D?
transient voltage suppressor; Part Number: P6KE15A; Component Kind: Standard; Component Type: Standard; Designator: P6KE15A; Footprint: DO-15; Library Reference: P6KE15A; Pin Count: 2
footprint DO-15
pins: 1, 2

## P6KE16A
designator D?
transient voltage suppressor; Part Number: P6KE16A; Component Kind: Standard; Component Type: Standard; Designator: P6KE16A; Footprint: DO-15; Library Reference: P6KE16A; Pin Count: 2
footprint DO-15
pins: 1, 2

## P6KE18A
designator D?
transient voltage suppressor; Part Number: P6KE18A; Component Kind: Standard; Component Type: Standard; Designator: P6KE18A; Footprint: DO-15; Library Reference: P6KE18A; Pin Count: 2
footprint DO-15
pins: 1, 2

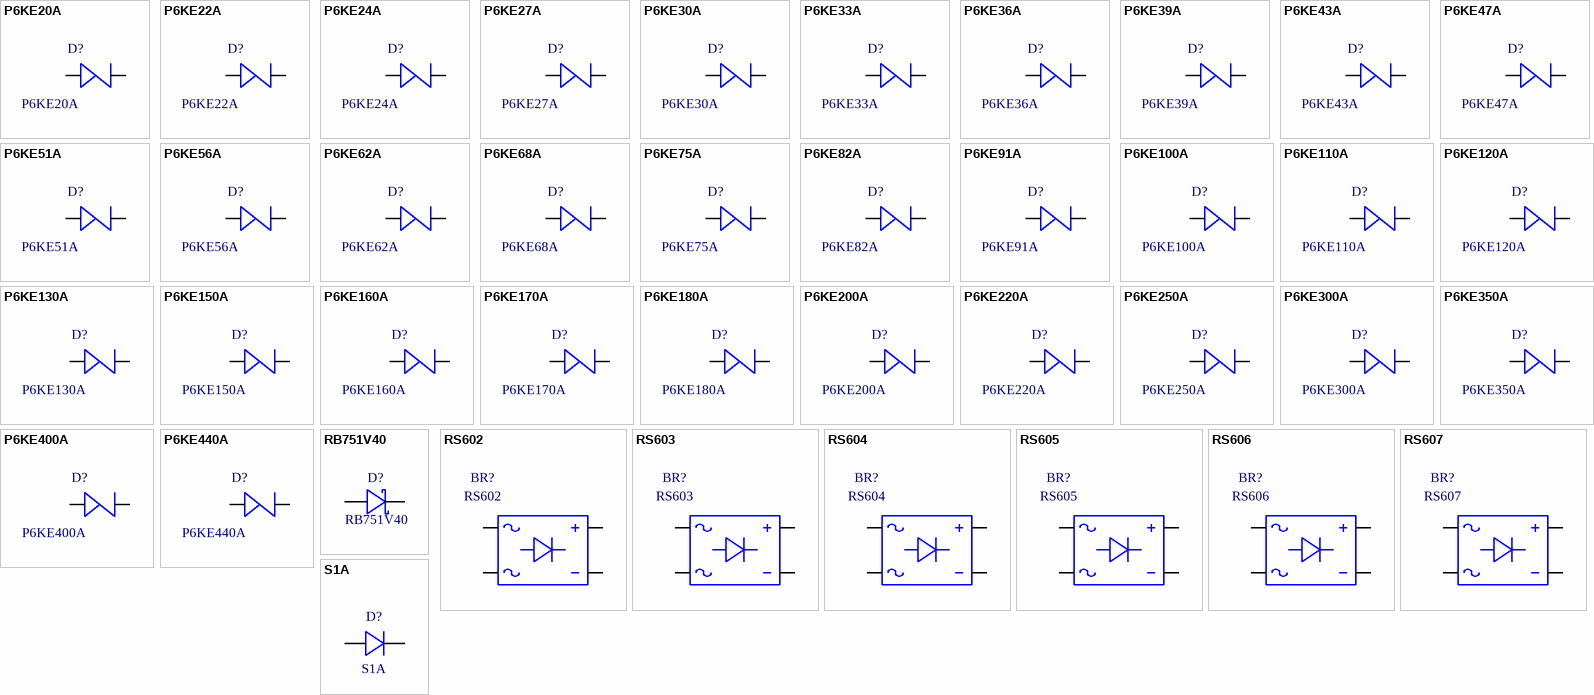
[diagram p104: symbols P6KE20A to S1A]

## P6KE20A
designator D?
transient voltage suppressor; Part Number: P6KE20A; Component Kind: Standard; Component Type: Standard; Designator: P6KE20A; Footprint: DO-15; Library Reference: P6KE20A; Pin Count: 2
footprint DO-15
pins: 1, 2

## P6KE22A
designator D?
transient voltage suppressor; Part Number: P6KE22A; Component Kind: Standard; Component Type: Standard; Designator: P6KE22A; Footprint: DO-15; Library Reference: P6KE22A; Pin Count: 2
footprint DO-15
pins: 1, 2

## P6KE24A
designator D?
transient voltage suppressor; Part Number: P6KE24A; Component Kind: Standard; Component Type: Standard; Designator: P6KE24A; Footprint: DO-15; Library Reference: P6KE24A; Pin Count: 2
footprint DO-15
pins: 1, 2

## P6KE27A
designator D?
transient voltage suppressor; Part Number: P6KE27A; Component Kind: Standard; Component Type: Standard; Designator: P6KE27A; Footprint: DO-15; Library Reference: P6KE27A; Pin Count: 2
footprint DO-15
pins: 1, 2

## P6KE30A
designator D?
transient voltage suppressor; Part Number: P6KE30A; Component Kind: Standard; Component Type: Standard; Designator: P6KE30A; Footprint: DO-15; Library Reference: P6KE30A; Pin Count: 2
footprint DO-15
pins: 1, 2

## P6KE33A
designator D?
transient voltage suppressor; Part Number: P6KE33A; Component Kind: Standard; Component Type: Standard; Designator: P6KE33A; Footprint: DO-15; Library Reference: P6KE33A; Pin Count: 2
footprint DO-15
pins: 1, 2

## P6KE36A
designator D?
transient voltage suppressor; Part Number: P6KE36A; Component Kind: Standard; Component Type: Standard; Designator: P6KE36A; Footprint: DO-15; Library Reference: P6KE36A; Pin Count: 2
footprint DO-15
pins: 1, 2

## P6KE39A
designator D?
transient voltage suppressor; Part Number: P6KE39A; Component Kind: Standard; Component Type: Standard; Designator: P6KE39A; Footprint: DO-15; Library Reference: P6KE39A; Pin Count: 2
footprint DO-15
pins: 1, 2

## P6KE43A
designator D?
transient voltage suppressor; Part Number: P6KE43A; Component Kind: Standard; Component Type: Standard; Designator: P6KE43A; Footprint: DO-15; Library Reference: P6KE43A; Pin Count: 2
footprint DO-15
pins: 1, 2

## P6KE47A
designator D?
transient voltage suppressor; Part Number: P6KE47A; Component Kind: Standard; Component Type: Standard; Designator: P6KE47A; Footprint: DO-15; Library Reference: P6KE47A; Pin Count: 2
footprint DO-15
pins: 1, 2

## P6KE51A
designator D?
transient voltage suppressor; Part Number: P6KE51A; Component Kind: Standard; Component Type: Standard; Designator: P6KE51A; Footprint: DO-15; Library Reference: P6KE51A; Pin Count: 2
footprint DO-15
pins: 1, 2

## P6KE56A
designator D?
transient voltage suppressor; Part Number: P6KE56A; Component Kind: Standard; Component Type: Standard; Designator: P6KE56A; Footprint: DO-15; Library Reference: P6KE56A; Pin Count: 2
footprint DO-15
pins: 1, 2

## P6KE62A
designator D?
transient voltage suppressor; Part Number: P6KE62A; Component Kind: Standard; Component Type: Standard; Designator: P6KE62A; Footprint: DO-15; Library Reference: P6KE62A; Pin Count: 2
footprint DO-15
pins: 1, 2

## P6KE68A
designator D?
transient voltage suppressor; Part Number: P6KE68A; Component Kind: Standard; Component Type: Standard; Designator: P6KE68A; Footprint: DO-15; Library Reference: P6KE68A; Pin Count: 2
footprint DO-15
pins: 1, 2

## P6KE75A
designator D?
transient voltage suppressor; Part Number: P6KE75A; Component Kind: Standard; Component Type: Standard; Designator: P6KE75A; Footprint: DO-15; Library Reference: P6KE75A; Pin Count: 2
footprint DO-15
pins: 1, 2

## P6KE82A
designator D?
transient voltage suppressor; Part Number: P6KE82A; Component Kind: Standard; Component Type: Standard; Designator: P6KE82A; Footprint: DO-15; Library Reference: P6KE82A; Pin Count: 2
footprint DO-15
pins: 1, 2

## P6KE91A
designator D?
transient voltage suppressor; Part Number: P6KE91A; Component Kind: Standard; Component Type: Standard; Designator: P6KE91A; Footprint: DO-15; Library Reference: P6KE91A; Pin Count: 2
footprint DO-15
pins: 1, 2

## P6KE100A
designator D?
transient voltage suppressor; Part Number: P6KE100A; Component Kind: Standard; Component Type: Standard; Designator: P6KE100A; Footprint: DO-15; Library Reference: P6KE100A; Pin Count: 2
footprint DO-15
pins: 1, 2

## P6KE110A
designator D?
transient voltage suppressor; Part Number: P6KE110A; Component Kind: Standard; Component Type: Standard; Designator: P6KE110A; Footprint: DO-15; Library Reference: P6KE110A; Pin Count: 2
footprint DO-15
pins: 1, 2

## P6KE120A
designator D?
transient voltage suppressor; Part Number: P6KE120A; Component Kind: Standard; Component Type: Standard; Designator: P6KE120A; Footprint: DO-15; Library Reference: P6KE120A; Pin Count: 2
footprint DO-15
pins: 1, 2

## P6KE130A
designator D?
transient voltage suppressor; Part Number: P6KE130A; Component Kind: Standard; Component Type: Standard; Designator: P6KE130A; Footprint: DO-15; Library Reference: P6KE130A; Pin Count: 2
footprint DO-15
pins: 1, 2

## P6KE150A
designator D?
transient voltage suppressor; Part Number: P6KE150A; Component Kind: Standard; Component Type: Standard; Designator: P6KE150A; Footprint: DO-15; Library Reference: P6KE150A; Pin Count: 2
footprint DO-15
pins: 1, 2

## P6KE160A
designator D?
transient voltage suppressor; Part Number: P6KE160A; Component Kind: Standard; Component Type: Standard; Designator: P6KE160A; Footprint: DO-15; Library Reference: P6KE160A; Pin Count: 2
footprint DO-15
pins: 1, 2

## P6KE170A
designator D?
transient voltage suppressor; Part Number: P6KE170A; Component Kind: Standard; Component Type: Standard; Designator: P6KE170A; Footprint: DO-15; Library Reference: P6KE170A; Pin Count: 2
footprint DO-15
pins: 1, 2

## P6KE180A
designator D?
transient voltage suppressor; Part Number: P6KE180A; Component Kind: Standard; Component Type: Standard; Designator: P6KE180A; Footprint: DO-15; Library Reference: P6KE180A; Pin Count: 2
footprint DO-15
pins: 1, 2

## P6KE200A
designator D?
transient voltage suppressor; Part Number: P6KE200A; Component Kind: Standard; Component Type: Standard; Designator: P6KE200A; Footprint: DO-15; Library Reference: P6KE200A; Pin Count: 2
footprint DO-15
pins: 1, 2

## P6KE220A
designator D?
transient voltage suppressor; Part Number: P6KE220A; Component Kind: Standard; Component Type: Standard; Designator: P6KE220A; Footprint: DO-15; Library Reference: P6KE220A; Pin Count: 2
footprint DO-15
pins: 1, 2

## P6KE250A
designator D?
transient voltage suppressor; Part Number: P6KE250A; Component Kind: Standard; Component Type: Standard; Designator: P6KE250A; Footprint: DO-15; Library Reference: P6KE250A; Pin Count: 2
footprint DO-15
pins: 1, 2

## P6KE300A
designator D?
transient voltage suppressor; Part Number: P6KE300A; Component Kind: Standard; Component Type: Standard; Designator: P6KE300A; Footprint: DO-15; Library Reference: P6KE300A; Pin Count: 2
footprint DO-15
pins: 1, 2

## P6KE350A
designator D?
transient voltage suppressor; Part Number: P6KE350A; Component Kind: Standard; Component Type: Standard; Designator: P6KE350A; Footprint: DO-15; Library Reference: P6KE350A; Pin Count: 2
footprint DO-15
pins: 1, 2

## P6KE400A
designator D?
transient voltage suppressor; Part Number: P6KE400A; Component Kind: Standard; Component Type: Standard; Designator: P6KE400A; Footprint: DO-15; Library Reference: P6KE400A; Pin Count: 2
footprint DO-15
pins: 1, 2

## P6KE440A
designator D?
transient voltage suppressor; Part Number: P6KE440A; Component Kind: Standard; Component Type: Standard; Designator: P6KE440A; Footprint: DO-15; Library Reference: P6KE440A; Pin Count: 2
footprint DO-15
pins: 1, 2

## RB751V40
designator D?
Schottky barrier single diode
footprint smd SOD-323
pins: 1, 2

## RS602
designator BR?
graetzbrug  100V/6A; Part Number: RS602; Component Kind: Standard; Component Type: Standard; Designator: RS602; Footprint: diodebrug (RS-6); Library Reference: RS602; Pin Count: 4
footprint diodebrug (RS-6)
pins: 1, 2, 3, 4

## RS603
designator BR?
graetzbrug  200V/6A; Part Number: RS603; Component Kind: Standard; Component Type: Standard; Designator: RS603; Footprint: diodebrug (RS-6); Library Reference: RS603; Pin Count: 4
footprint diodebrug (RS-6)
pins: 1, 2, 3, 4

## RS604
designator BR?
graetzbrug  400V/6A; Part Number: RS604; Component Kind: Standard; Component Type: Standard; Designator: RS604; Footprint: diodebrug (RS-6); Library Reference: RS604; Pin Count: 4
footprint diodebrug (RS-6)
pins: 1, 2, 3, 4

## RS605
designator BR?
graetzbrug  600V/6A; Part Number: RS605; Component Kind: Standard; Component Type: Standard; Designator: RS605; Footprint: diodebrug (RS-6); Library Reference: RS605; Pin Count: 4
footprint diodebrug (RS-6)
pins: 1, 2, 3, 4

## RS606
designator BR?
graetzbrug  800V/6A; Part Number: RS606; Component Kind: Standard; Component Type: Standard; Designator: RS606; Footprint: diodebrug (RS-6); Library Reference: RS606; Pin Count: 4
footprint diodebrug (RS-6)
pins: 1, 2, 3, 4

## RS607
designator BR?
graetzbrug  1000V/6A; Part Number: RS607; Component Kind: Standard; Component Type: Standard; Designator: RS607; Footprint: diodebrug (RS-6); Library Reference: RS607; Pin Count: 4
footprint diodebrug (RS-6)
pins: 1, 2, 3, 4

## S1A
designator D?
general purpose rectifier
footprint smd DO-214AC
pins: 1, 2

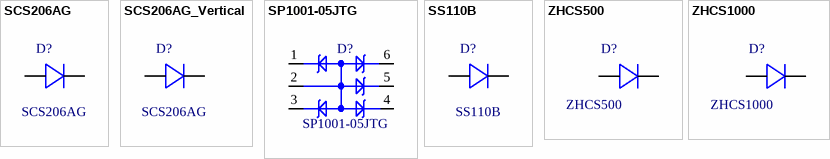
[diagram p105: symbols SCS206AG to ZHCS1000]

## SCS206AG
designator D?
SiC Schottky Barrier Diode
footprint TO-220 (horizontaal)
pins: 1, 3

## SCS206AG_Vertical
designator D?, comment SCS206AG
SiC Schottky Barrier Diode
footprint TO-220 2pin
pins: 1, 2

## SP1001-05JTG
designator D?
TVS Diode Array
footprint smd SC-70 (6-pin)
pins: 1, 2, 3, 4, 5, 6

## SS110B
designator D?
Schottky Rectifier Barrier
footprint smd SMB
pins: 1, 2

## ZHCS500
designator D?
high current Schottky barrier diode; Part Number: ZHCS500; Component Kind: Standard; Component Type: Standard; Designator: ZHCS500; Footprint: smd SOT-23; Library Reference: ZHCS500; Pin Count: 2
footprint smd SOT-23
pins: 1, 2

## ZHCS1000
designator D?
silicon high current Schottky barrier diode; Part Number: ZHCS1000; Component Kind: Standard; Component Type: Standard; Designator: ZHCS1000; Footprint: smd SOT-23; Library Reference: ZHCS1000; Pin Count: 2
footprint smd SOT-23
pins: 1, 2


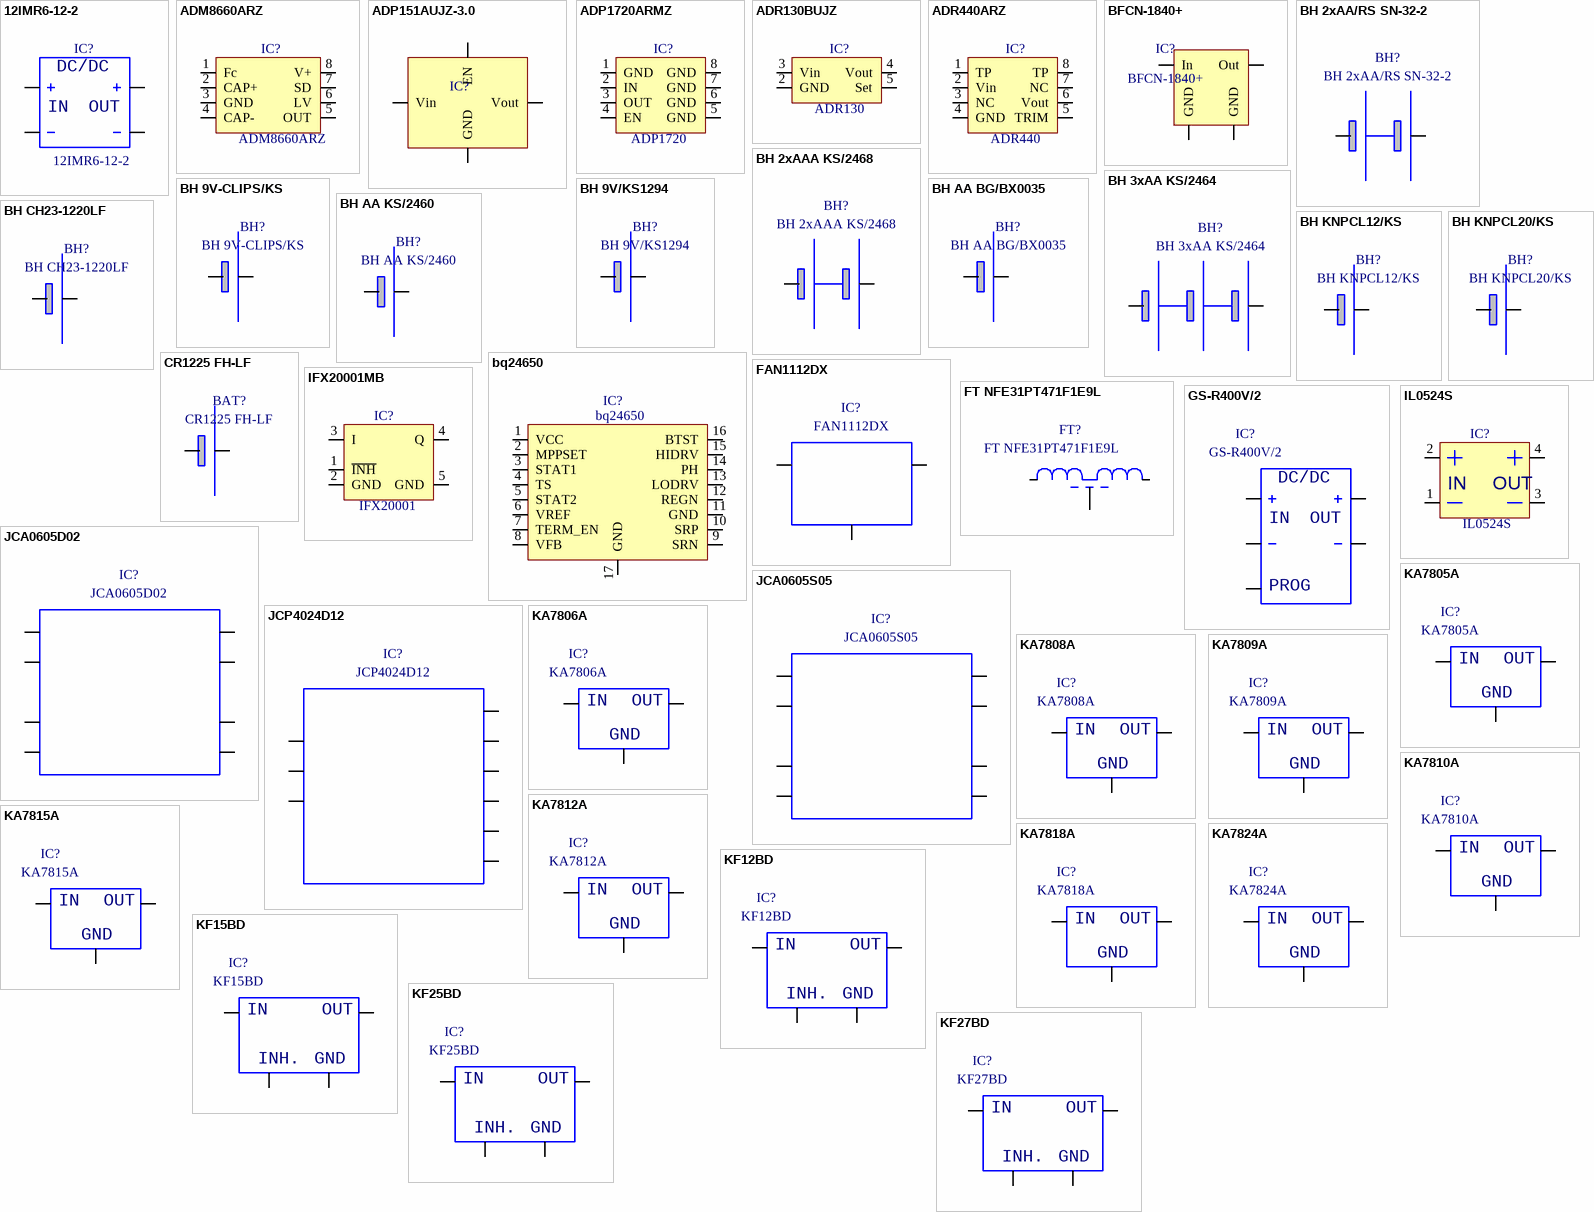
[diagram p106: symbols 12IMR6-12-2 to KF27BD]

## 12IMR6-12-2
designator IC?
DC/DC converter, 12V 500mA, Power-One
footprint DC/DC conv. Power-One (IMR6)
pins: 1, 2, 3, 4
text: DC/DC; IN; OUT

## ADM8660ARZ
designator IC?
CMOS Switched-Capacitor  Voltage Converter
footprint smd soicn/8
pins: 1 Fc, 2 CAP+, 3 GND, 4 CAP-, 5 OUT, 6 LV, 7 SD, 8 V+

## ADP151AUJZ-3.0
designator IC?  (value not drawn)
Ultralow Noise, 200 mA,  CMOS Linear Regulator  3.0V
footprint smd SOT-23/5p (body 1.6 wide, pitch 0.95mm)
pins: 1 Vin, 2 GND, 3 EN, 5 Vout

## ADP1720ARMZ
designator IC?, comment ADP1720
50 mA, High Voltage,  Micropower Linear Regulator
footprint smd msop/8
pins: 1 GND, 2 IN, 3 OUT, 4 EN, 5 GND, 6 GND, 7 GND, 8 GND

## ADR130BUJZ
designator IC?, comment ADR130
Precision Series Sub-Band Gap  Voltage Reference
footprint smd SOT-23/6p (body 1.6 wide, pitch 0.95mm)
pins: 2 GND, 3 Vin, 4 Vout, 5 Set

## ADR440ARZ
designator IC?, comment ADR440
Ultralow Noise, LDO XFET Voltage  References with Current Sink and Source
footprint smd SOICN/8
pins: 1 TP, 2 Vin, 3 NC, 4 GND, 5 TRIM, 6 Vout, 7 NC, 8 TP

## BFCN-1840+
designator IC?
Ceramic bandpass filter Mini-Circuits BFCN-1840+
footprint BFCN-1840+ (Bandpass filter)
pins: 1 In, 2 GND, 3 Out, 4 GND

## BH 2xAA/RS SN-32-2
designator BH?
batterijhouder 2xAA, RS SN-32-2
footprint bathouder 2x AA (RS SN-32-2)
pins: 1, 2

## BH 2xAAA KS/2468
designator BH?
batterijhouder 2xAAA, Keystone 2468
footprint bathouder 2x AAA (Keystone 2468)
pins: 1, 2

## BH 3xAA KS/2464
designator BH?
batterijhouder 3xAA, Keystone 2464
footprint bathouder 3xAA (Keystone 2464)
pins: 1, 2

## BH 9V-CLIPS/KS
designator BH?
batterijhouder 9V, MN1604, Keystone clips 593 en 594
footprint bathouder 9V-clips (Keystone 593/594)
pins: 1, 2

## BH 9V/KS1294
designator BH?
batterijhouder 9V, MN1604, Keystone 1294
footprint bathouder 9V (Keystone 1294)
pins: 1, 2

## BH AA BG/BX0035
designator BH?
batterijhouder AA, Bulgin BX0035
footprint bathouder AA (Bulgin BX0035)
pins: 1, 2

## BH AA KS/2460
designator BH?
batterijhouder AA, Keystone 2460
footprint bathouder AA (Keystone 2460)
pins: 1, 2

## BH CH23-1220LF
designator BH?
batterijhouder knoopcel 12mm, Multicomp CH23-1220LF
footprint bathouder knpcel 12 (CH23-1220LF)
pins: 1, 2

## BH KNPCL12/KS
designator BH?
batterijhouder knoopcel 12mm, Keystone 501
footprint bathouder knpcel 12 (Keystone 501)
pins: 1, 2

## BH KNPCL20/KS
designator BH?
batterijhouder knoopcel 20mm, Keystone 103
footprint bathouder knpcel 20 (Keystone 103)
pins: 1, 2

## bq24650
designator IC?
Synchronous Switch-Mode Battery Charge Controller for Solar Power  With Maximum Power Point Tracking
footprint smd QFN/16 (3.5x3.5mm p0.5mm)
pins: 1 VCC, 2 MPPSET, 3 STAT1, 4 TS, 5 STAT2, 6 VREF, 7 TERM_EN, 8 VFB, 9 SRN, 10 SRP, 11 GND, 12 REGN, 13 LODRV, 14 PH, 15 HIDRV, 16 BTST, 17 GND

## CR1225 FH-LF
designator BAT?
batterij 3V, Renata CR1225 FH-LF
footprint batterij CR1225 FH-LF (Renata)
pins: 1 M, 2 P

## FAN1112DX
designator IC?
positive LDO regulator 1.2V
footprint TO-252 3pin
pins: 1 GND, 2 OUT, 3 IN

## FT NFE31PT471F1E9L
designator FT?
smd filter, Murata, NFE31PT471F1E9L
footprint smd filter NFM60R (Murata)
pins: 1, 2, 3

## GS-R400V/2
designator IC?
adjustable DC/DC convertor, +5.1 to +24V, 4A
footprint DC/DC conv. SGS (GS-R400V/2)
pins: 1, 2, 3, 4, 5
text: DC/DC; IN; OUT; PROG

## IFX20001MB
designator IC?, comment IFX20001
Low dropout Voltage Regulator LDO
footprint smd SCT595-5
pins: 1 ~{INH}, 2 GND, 3 I, 4 Q, 5 GND

## IL0524S
designator IC?
DC/DC CONVERTER, 2W, SINGLE O/P
footprint IL0524s
pins: 1, 2, 3, 4
text: IN; OUT

## JCA0605D02
designator IC?
DC/DC converter, +-12V 0.25A, XP Power
footprint DC/DC conv. XpPower (JCA04/06 serie)
pins: 1 -VIN, 2 -VIN, 3 COM, 4 -VOUT, 5 +VOUT, 6 COM, 7 +VIN, 8 +VIN

## JCA0605S05
designator IC?
DC/DC converter, +5V 1A, XP Power
footprint DC/DC conv. XpPower (JCA04/06 serie)
pins: 1 -VIN, 2 -VIN, 3 NC, 4 NC, 5 +VOUT, 6 -VOUT, 7 +VIN, 8 +VIN

## JCP4024D12
designator IC?
DC/DC converter, +12V en -12V, 40W, XPpower
footprint DC/DC conv. Traco (TEN40 serie)
pins: 1 +VIN, 2 -VIN, 3 ON/OFF, 4 NC, 5 +12V, 6 RTN, 7 RTN, 8 -12V, 9 TRIM

## KA7805A
designator IC?
spanningsregelaar, +5V/1A, TO-220; Part Number: KA7805A; Component Kind: Standard; Component Type: Standard; Designator: KA7805A; Footprint: TO-220 (vertikaal); Library Reference: KA7805A; Pin Count: 3
footprint TO-220 (vertikaal)
pins: 1, 2, 3
text: IN; OUT; GND

## KA7806A
designator IC?
spanningsregelaar, +6V/1A, TO-220; Part Number: KA7806A; Component Kind: Standard; Component Type: Standard; Designator: KA7806A; Footprint: TO-220 (vertikaal); Library Reference: KA7806A; Pin Count: 3
footprint TO-220 (vertikaal)
pins: 1, 2, 3
text: IN; OUT; GND

## KA7808A
designator IC?
spanningsregelaar, +8V/1A, TO-220; Part Number: KA7808A; Component Kind: Standard; Component Type: Standard; Designator: KA7808A; Footprint: TO-220 (vertikaal); Library Reference: KA7808A; Pin Count: 3
footprint TO-220 (vertikaal)
pins: 1, 2, 3
text: IN; OUT; GND

## KA7809A
designator IC?
spanningsregelaar, +9V/1A, TO-220; Part Number: KA7809A; Component Kind: Standard; Component Type: Standard; Designator: KA7809A; Footprint: TO-220 (vertikaal); Library Reference: KA7809A; Pin Count: 3
footprint TO-220 (vertikaal)
pins: 1, 2, 3
text: IN; OUT; GND

## KA7810A
designator IC?
spanningsregelaar, +10V/1A, TO-220; Part Number: KA7810A; Component Kind: Standard; Component Type: Standard; Designator: KA7810A; Footprint: TO-220 (vertikaal); Library Reference: KA7810A; Pin Count: 3
footprint TO-220 (vertikaal)
pins: 1, 2, 3
text: IN; OUT; GND

## KA7812A
designator IC?
spanningsregelaar, +12V/1A, TO-220; Part Number: KA7812A; Component Kind: Standard; Component Type: Standard; Designator: KA7812A; Footprint: TO-220 (vertikaal); Library Reference: KA7812A; Pin Count: 3
footprint TO-220 (vertikaal)
pins: 1, 2, 3
text: IN; OUT; GND

## KA7815A
designator IC?
spanningsregelaar, +15V/1A, TO-220; Part Number: KA7815A; Component Kind: Standard; Component Type: Standard; Designator: KA7815A; Footprint: TO-220 (vertikaal); Library Reference: KA7815A; Pin Count: 3
footprint TO-220 (vertikaal)
pins: 1, 2, 3
text: IN; OUT; GND

## KA7818A
designator IC?
spanningsregelaar, +18V/1A, TO-220; Part Number: KA7818A; Component Kind: Standard; Component Type: Standard; Designator: KA7818A; Footprint: TO-220 (vertikaal); Library Reference: KA7818A; Pin Count: 3
footprint TO-220 (vertikaal)
pins: 1, 2, 3
text: IN; OUT; GND